# EAGLE library part PCF2127A (library gecko)
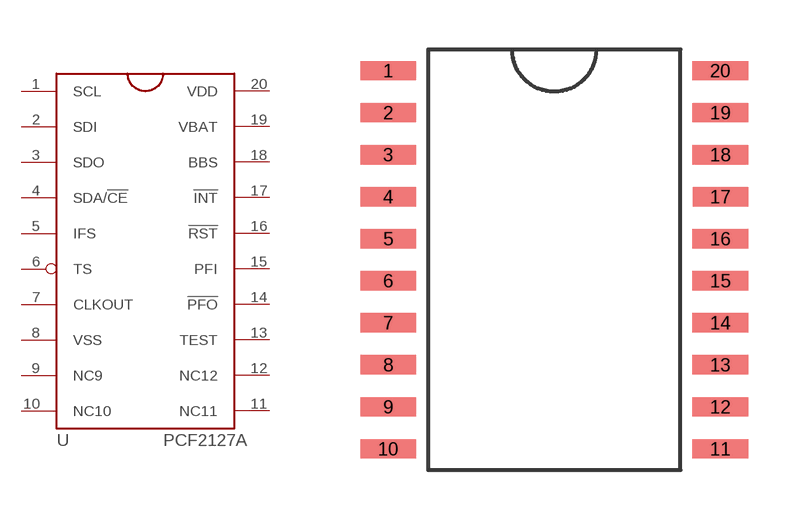
[diagram p4: symbol with the pads of SO-20; footprint SO-20]

Designator prefix U

## PCF2127A  [SO-20]
1  SCL  in
2  SDI  in
3  SDO  out
4  SDA/!CE
5  IFS  in
6  TS  in
7  CLKOUT  oc
8  VSS  sup
9  NC9  nc
10  NC10  nc
11  NC11  nc
12  NC12  nc
13  TEST  nc
14  !PFO  oc
15  PFI  in
16  !RST  oc
17  !INT  oc
18  BBS
19  VBAT  pwr
20  VDD  pwr

## Footprint SO-20 (pad centres in mm)
smd 1.676 x 0.584: 1 -5.016,5.715; 2 -5.016,4.445; 3 -5.016,3.175; 4 -5.016,1.905; 5 -5.016,0.635; 6 -5.016,-0.635; 7 -5.016,-1.905; 8 -5.016,-3.175; 9 -5.016,-4.445; 10 -5.016,-5.715; 11 5.016,-5.715; 12 5.016,-4.445; 13 5.016,-3.175; 14 5.016,-1.905; 15 5.016,-0.635; 16 5.016,0.635; 17 5.017,1.905; 18 5.016,3.175; 19 5.016,4.445; 20 5.016,5.715